# Altium schematic symbol library RES10K.SchLib: 3 symbols
Pins are listed as number, name and electrical type; pins without a type are passive.

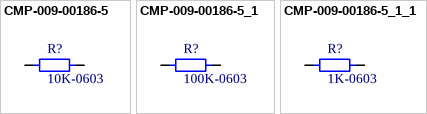
[diagram p0: symbols CMP-009-00186-5 to CMP-009-00186-5_1_1]

## CMP-009-00186-5
designator R?, comment 10K-0603
Res 10K Ohm Thick Film 0603 1% 1/10W ±100ppm/°C Molded SMD SMD Paper T/R; Max Power Dissipation: 100mW; Features: Automotive AEC-Q200; Height: 0.022inch; Power Rating: 100mW; Military Standard: Not; Case Code (Imperial): 0603; Ratings: AEC-Q200; Depth: 0.8mm; Radiation Hardening: No; Width: 0.031inch; Case Code (Metric): 1608; Series: RMCF; Lead Free: Lead Free; Length: 1.55mm; Resistor Type: Thick Film; Temperature Coefficient: 100ppm/°C; Contact Plating: Tin,Matte; Construction: Rectangular; Number of Terminations: 2
footprint RESC1508X06N (Resistor, 0603, RMCF, 1,55x0,80mm, IPC Medium Density)
pins: 1, 2 1

## CMP-009-00186-5_1
designator R?, comment 100K-0603
Res 100K Ohm Thick Film 0603 1% 1/10W ±100ppm/°C Molded SMD SMD Paper T/R; Max Power Dissipation: 100mW; Features: Automotive AEC-Q200; Height: 0.022inch; Power Rating: 100mW; Military Standard: Not; Case Code (Imperial): 0603; Ratings: AEC-Q200; Depth: 0.8mm; Radiation Hardening: No; Width: 0.031inch; Case Code (Metric): 1608; Series: RMCF; Lead Free: Lead Free; Length: 1.55mm; Resistor Type: Thick Film; Temperature Coefficient: 100ppm/°C; Contact Plating: Tin,Matte; Construction: Rectangular; Number of Terminations: 2
footprint RESC1508X06N (Resistor, 0603, RMCF, 1,55x0,80mm, IPC Medium Density)
pins: 1, 2 1

## CMP-009-00186-5_1_1
designator R?, comment 1K-0603
Res 1K Ohm Thick Film 0603 1% 1/10W ±100ppm/°C Molded SMD SMD Paper T/R; Max Power Dissipation: 100mW; Features: Automotive AEC-Q200; Height: 0.022inch; Power Rating: 100mW; Military Standard: Not; Case Code (Imperial): 0603; Ratings: AEC-Q200; Depth: 0.8mm; Radiation Hardening: No; Width: 0.031inch; Case Code (Metric): 1608; Series: RMCF; Lead Free: Lead Free; Length: 1.55mm; Resistor Type: Thick Film; Temperature Coefficient: 100ppm/°C; Contact Plating: Tin,Matte; Construction: Rectangular; Number of Terminations: 2
footprint RESC1508X06N (Resistor, 0603, RMCF, 1,55x0,80mm, IPC Medium Density)
pins: 1, 2 1